# Altium footprint library SO-28DI.PcbLib: 1 footprints
Each footprint in its own frame and in the unit in brackets; x right, y up, seen from the top. Pads: shape width x height; smd on the part's side, far side on the other; paste and mask are expansions set on the pad; w line width, h text height; cw(c..) or ccw(c..) is an arc to the next point about the centre after c.
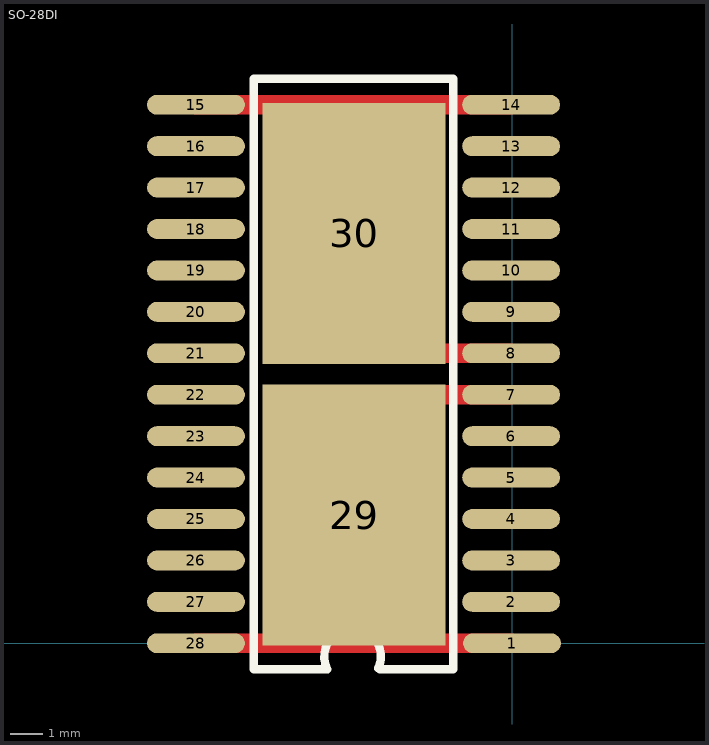
[diagram p0: the footprint, top view; thin cyan lines are the x and y axes]

## SO-28DI [mm]
pads (30):
  oval 3x0.61 smd: 1(0,0) 2(-0.028,1.27) 3(-0.028,2.54) 4(-0.028,3.81) 5(-0.028,5.08) 6(-0.028,6.35) 7(-0.028,7.62) 8(-0.028,8.89) 9(-0.028,10.16) 10(-0.028,11.43) 11(-0.028,12.7) 12(-0.028,13.97) 13(-0.028,15.24) 14(-0.028,16.51) 15(-9.692,16.51) 16(-9.692,15.24) 17(-9.692,13.97) 18(-9.692,12.7) 19(-9.692,11.43) 20(-9.692,10.16) 21(-9.692,8.89) 22(-9.692,7.62) 23(-9.692,6.35) 24(-9.692,5.08) 25(-9.692,3.81) 26(-9.692,2.54) 27(-9.692,1.27) 28(-9.692,0)
  rect 5.6x8 smd: 29(-4.846,3.928) 30(-4.846,12.563)
TopLayer:
  lines w0.61: -9.692,0 0,0 ; -9.692,16.51 -0.028,16.51 ; -2.764,7.62 -0.028,7.62 ; -2.567,8.89 -0.028,8.89
TopOverlay:
  lines w0.254: -5.688,-0.744 cw(c-4.89,-0.4) -4.107,-0.777 ; -5.66,-0.795 -7.92,-0.795 -7.92,17.305 -1.8,17.305 -1.8,-0.795 -4.06,-0.795
3D body: height 2.5, standoff 0, extent -10.018,-0.712 0.282,17.188